# Altium schematic symbol library Master JULY2019.SchLib: 264 symbols (part 1 of 4)
Pins are listed as number, name and electrical type; pins without a type are passive.

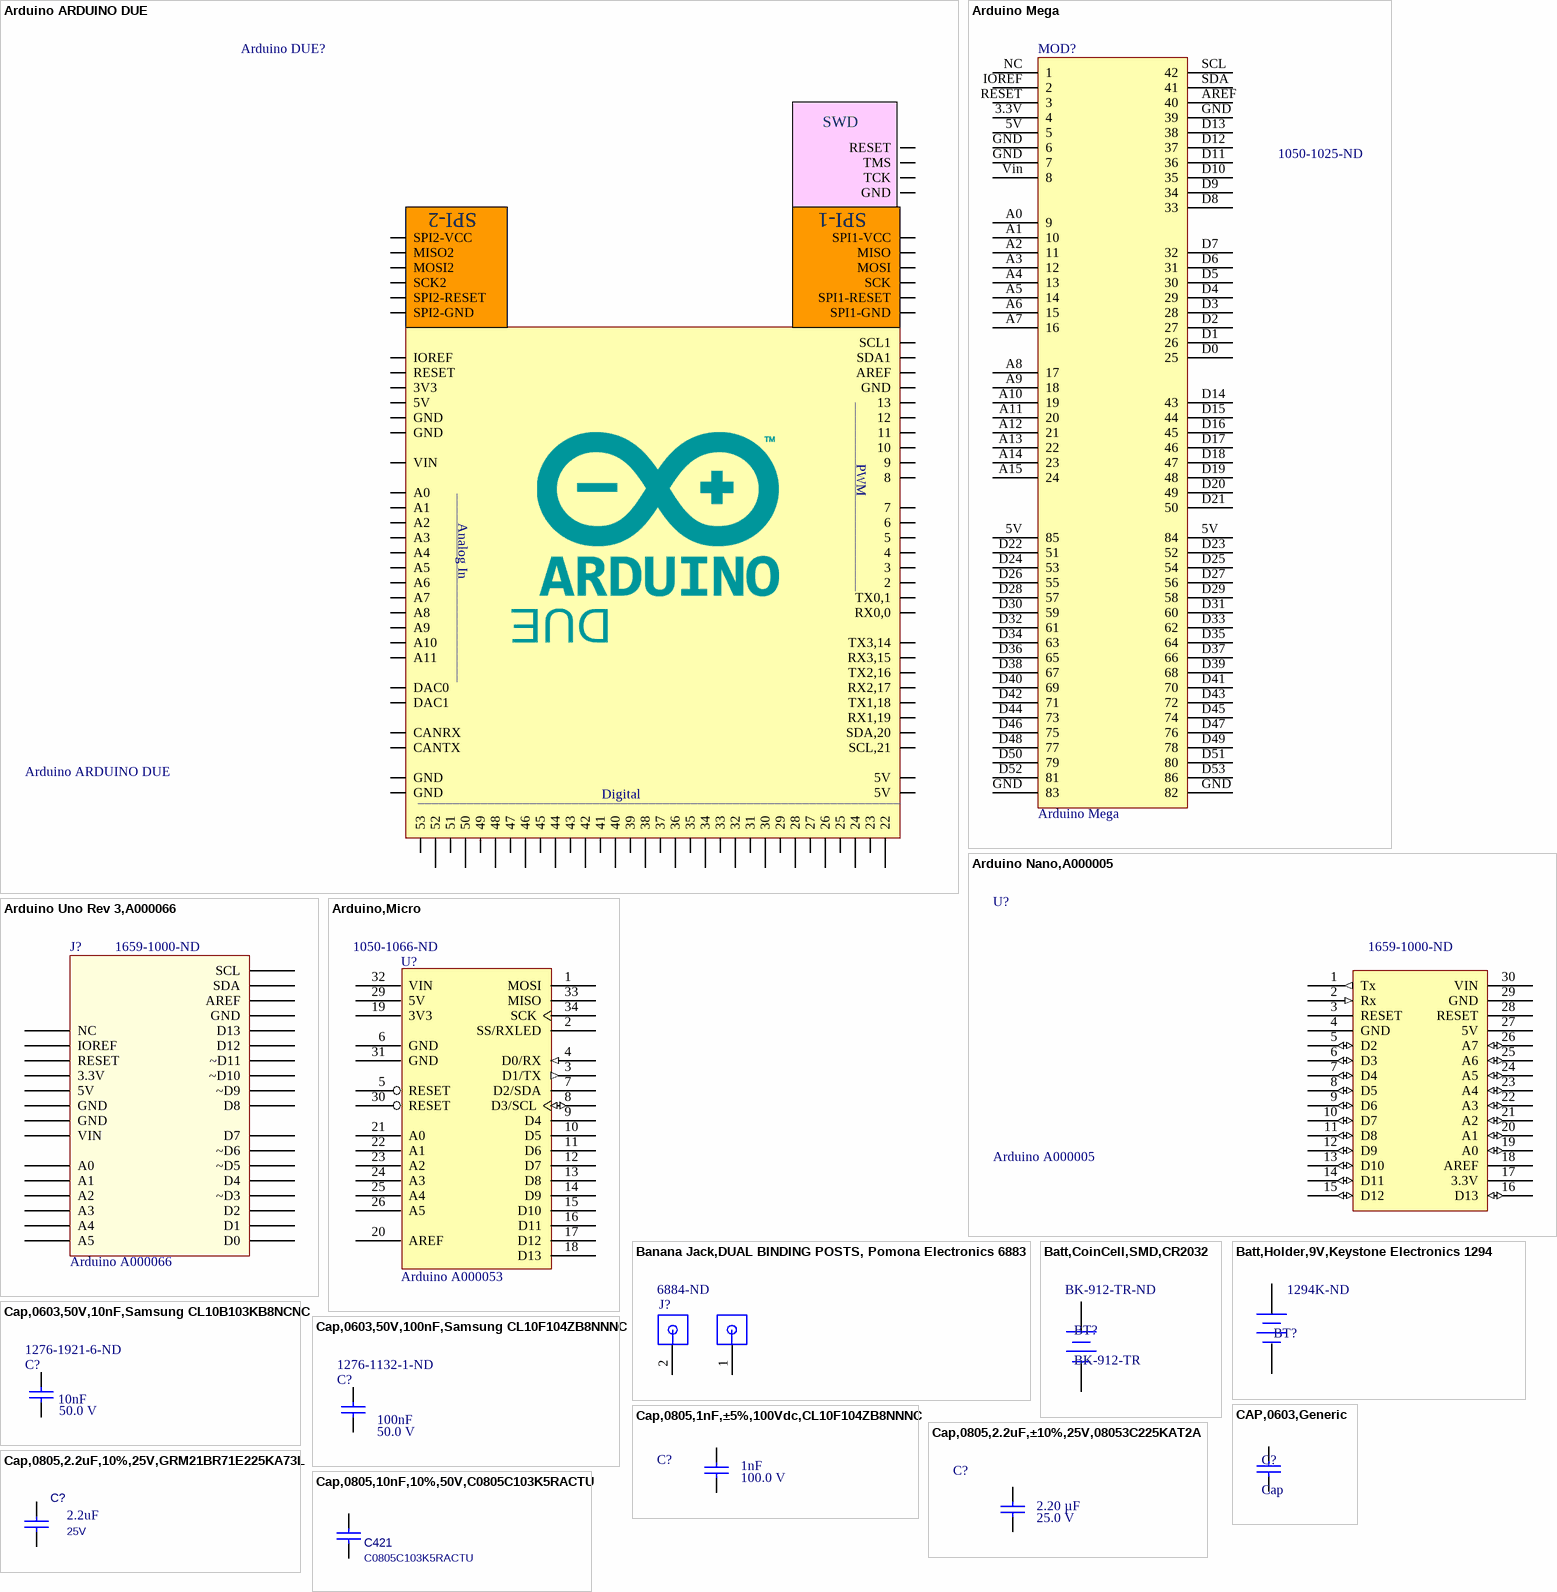
[diagram p0: symbols Arduino ARDUINO DUE to Cap,0805,10nF,10%,50V,C0805C103K5RACTU]

## Arduino ARDUINO DUE
designator Arduino DUE?
Dev.kit: Arduino Shield; Operating Voltage: 3.3V; DC Current for 5V Pin: 800mA; Input Voltage (recommended) (in VIN pin): 7-12V; Supplier 1: Newark; Supplier 2: TME; Supplier 3: Farnell; Supplier 4: Digi-Key; Supplier 5: RSComponents; Supplier 6: Digi-Key; Supplier Part Number 6: 1050-1049-ND; Supplier Part Number 5: 7697412
footprint Arduino_DUE (This footpring is intended to be used as a shield for Arduino DUE since Arduino DUE is an development board)
pins: 0 RX0,0, 1 TX0,1, 2, 3, 3V3, 4, 5, 5V, 5V1 5V, 5V2 5V, 5V-1 SPI1-VCC, 5V-2 SPI2-VCC, 6, 7, 8, 9, 10, 11, 12, 13, 14 TX3,14, 15 RX3,15, 16 TX2,16, 17 RX2,17, 18 TX1,18, 19 RX1,19, 20 SDA,20, 21 SCL,21, 22, 23, 24, 25, 26, 27, 28, 29, 30, 31, 32, 33, 34, 35, 36, 37, 38, 39, 40, 41, 42, 43, 44, 45, 46, 47, 48, 49, 50, 51, 52, 53, 99, A0, A1, A2, A3, A4, A5, A6, A7, A8, A9, A10, A11, AREF, CANRX, CANTX, DAC0, DAC1, GND, GND1 GND, GND2 GND, GND3 GND, GND4 GND, IOREF, MISO, MISO2, MOSI, MOSI2, RESET, SCK, SCK2, SCL1, SDA1, SPI1-GND, SPI1-RESET, SPI2-GND, SPI2-RESET, SWD-GND GND, SWD-RESET RESET, SWD-TCK TCK, SWD-TMS TMS, VIN
text: SWD; SPI-2; SPI-1; ___________________________; PWM; Analog In; DUE; Digital; _____________________________________________________________________

## Arduino Mega
designator MOD?  Supplier Part Number 1: 1050-1025-ND
ATMEGA2560, ARDUINO MEGA2560 REV3, BOARD; Silicon Manufacturer: Atmel; Core Archi; Octopart URL: https://octopart.com/a000067-arduino-21605293; Supplier 1: Digi-Key
footprint Arduino Mega 2560
pins: 3.3V 4, 5V 5, 5V 84, 5V 85, A0 9, A1 10, A2 11, A3 12, A4 13, A5 14, A6 15, A7 16, A8 17, A9 18, A10 19, A11 20, A12 21, A13 22, A14 23, A15 24, AREF 40, D0 25, D1 26, D2 27, D3 28, D4 29, D5 30, D6 31, D7 32, D8 33, D9 34, D10 35, D11 36, D12 37, D13 38, D14 43, D15 44, D16 45, D17 46, D18 47, D19 48, D20 49, D21 50, D22 51, D23 52, D24 53, D25 54, D26 55, D27 56, D28 57, D29 58, D30 59, D31 60, D32 61, D33 62, D34 63, D35 64, D36 65, D37 66, D38 67, D39 68, D40 69, D41 70, D42 71, D43 72, D44 73, D45 74, D46 75, D47 76, D48 77, D49 78, D50 79, D51 80, D52 81, D53 86, GND 6, GND 7, GND 39, GND 82, GND 83, IOREF 2, NC 1, RESET 3, SCL 42, SDA 41, Vin 8

## Arduino Nano,A000005
designator U?, comment Arduino A000005  Supplier Part Number 1: 1659-1000-ND
Nano 3.0 Atmel Atmega 328 MCU board; Supplier 1: Digi-Key
footprint Arduino Nano With Headers
pins: 1 Tx (out), 2 Rx (in), 3 RESET, 4 GND (power), 5 D2 (io), 6 D3 (io), 7 D4 (io), 8 D5 (io), 9 D6 (io), 10 D7 (io), 11 D8 (io), 12 D9 (io), 13 D10 (io), 14 D11 (io), 15 D12 (io), 16 D13 (io), 17 3.3V (power), 18 AREF, 19 A0 (io), 20 A1 (io), 21 A2 (io), 22 A3 (io), 23 A4 (io), 24 A5 (io), 25 A6 (io), 26 A7 (io), 27 5V (power), 28 RESET, 29 GND (power), 30 VIN (power)

## Arduino Uno Rev 3,A000066
designator J?, comment Arduino A000066  Supplier Part Number 1: 1659-1000-ND
Microcontroller board, Uno [Arduino] A000066 Microcontroller board, Uno 7640152110092; Core Architecture: AVR; Number of Bits: 8; OctopartID: aa24626d5c2275e3; RoHS: Compliant; Octopart URL: http://octopart.com/a000066-arduino-21222240; REACH SVHC Compliance: No SVHC; Manufacturer Part Number: A000066; Supplier 1: Digi-Key
footprint Arduino Uno (TE-5-534237-8)
pins: 3.3V, 5V, A0, A1, A2, A3, A4, A5, AREF, D0, D1, D2, D3 ~D3, D4, D5 ~D5, D6 ~D6, D7, D8, D9 ~D9, D10 ~D10, D11 ~D11, D12, D13, GND1 GND, GND2 GND, GND3 GND, IOREF, NC, RESET, SCL, SDA, VIN

## Arduino,Micro
designator U?, comment Arduino A000053  Supplier Part Number 1: 1050-1066-ND
Arduino Micro based on ATMega32u4; Number of Bits: 8; Arduino: Pro Micro (Mega32U4); Octopart URL: http://octopart.com/a000053-arduino-26601537; Manufacturer Part Number: A000053; Supplier 1: Digi-Key
footprint Arduino, Micro (Mill-Max 801 series sockets)
pins: 1 MOSI, 2 SS/RXLED, 3 D1/TX (out), 4 D0/RX (in), 5 RESET, 6 GND, 7 D2/SDA, 8 D3/SCL (io), 9 D4, 10 D5, 11 D6, 12 D7, 13 D8, 14 D9, 15 D10, 16 D11, 17 D12, 18 D13, 19 3V3 (power), 20 AREF, 21 A0, 22 A1, 23 A2, 24 A3, 25 A4, 26 A5, 29 5V (power), 30 RESET, 31 GND, 32 VIN (power), 33 MISO, 34 SCK

## Banana Jack,DUAL BINDING POSTS, Pomona Electronics 6883
designator J?, comment Supplier Part Number 1: 6884-ND  (hidden comment: Pomona Electronics 6883)
DUAL BINDING POSTS; Wire Gauge: 12.0 AWG; Lead-Free Status: Lead Free; Current Rating: 30.0 A; Octopart Url: https://octopart.com/6883-pomona+electronics-2074; Mounting Style: Panel; OctopartID: 47678e6d6a1b98a0; RoHS: Compliant; Color: Black; Contact Plating: Nickel; Contact Material: Brass; REACH SVHC Compliance: No SVHC; Insulation Material: Nylon; Supplier 1: Digi-Key
footprint Banana Jack 3/4" spacing 2 (Banana Jack 3/4" spacing)
footprint Banana Jack 3/4" spacing
pins: 1 +, 2 -

## Batt,CoinCell,SMD,CR2032
designator BT?, comment BK-912-TR  Supplier Part Number 1: BK-912-TR-ND
HOLDER COIN CELL 20MM SMD; Style: Retainer; Battery Cell Size: Coin, 20.0mm; Number of Cells: 1; Battery Series: 2032; mfg P/N: BK-912-TR; Mounting Type: PCB, Surface Mount; Supplier 1: Digi-Key
footprint Batt,CoinCell,CR2032,SMD (CR2032 CoinCell Battery Holder)
footprint Batt,CoinCell,CR2032,PC (CR2032 Coincell Battery Holder, Through Hole)
pins: 1 +, 2 -

## Batt,Holder,9V,Keystone Electronics 1294
designator BT?, comment Supplier Part Number 1: 1294K-ND  (hidden comment: Keystone Electronics 1294)
HOLDER BATT 9V UNIV PLASTIC PC; Lead-Free Status: Lead Free; Number of Contacts: 2; Octopart Url: https://octopart.com/1294-keystone-3743; Material: Plastic; REACH SVHC Compliance: No SVHC; Contact Plating: Nickel; RoHS: Compliant; Packaging: Bulk; Contact Material: Steel; Supplier 1: Digi-Key
footprint Batt,Holder,9V
pins: 1 +, 2 -

## Cap,0603,50V,10nF,Samsung CL10B103KB8NCNC
designator C?, comment Voltage Rating (DC): 50.0 V  Capacitance: 10nF  Supplier Part Number 1: 1276-1921-6-ND  (hidden comment: CL10B103KB8NCNC)
10000pF ±10% 50V Ceramic Capacitor X7R 0603 (1608 Metric); Dielectric Characteristic: Y5V; Lead-Free Status: Lead Free; Capacitance Tolerance: +80/-20%; RoHS: Compliant; Case/Package: 0603; Mounting Style: Surface Mount; mfg P/N: CL10B103KB8NCNC; Supplier 1: Digi-Key
footprint Cap, 0603 (CAPC1608X90X35LL15T15)
pins: 1, 2

## Cap,0603,50V,100nF,Samsung CL10F104ZB8NNNC
designator C?, comment Voltage Rating (DC): 50.0 V  Capacitance: 100nF  Supplier Part Number 1: 1276-1132-1-ND  (hidden comment: CL10F104ZB8NNNC)
Cap Ceramic 0.1uF 50V Y5V -20% to 80% SMD 0603 85C Paper T/R; Lead-Free Status: Lead Free; Capacitance Tolerance: +80/-20%; OctopartID: 6bf5a21323d9b432; Dielectric Characteristic: Y5V; RoHS: Compliant; Case/Package: 0603; Mounting Style: Surface Mount; Octopart Url: https://octopart.com/cl10f104zb8nnnc-samsung-15494474; mfg P/N: CL10F104ZB8NNNC; Supplier 1: Digi-Key; Supplier 2: LCSC; Supplier Part Number 2: C1688
footprint Cap, 0603 (CAPC1608X90X35LL15T15)
pins: 1, 2

## CAP,0603,Generic
designator C?, comment Cap
footprint Cap, 0603 (CAPC1608X90X35LL15T15)
pins: 1, 2

## Cap,0805,1nF,±5%,100Vdc,CL10F104ZB8NNNC
designator C?, comment Voltage Rating (DC): 100.0 V  Capacitance: 1nF  (hidden comment: C0805X102J1GACAUTO)
CAPACITOR, 1NF, 100V, NP0, 0805; Capacitance Tolerance: ±5%; Dielectric Characteristic: C0G/NP0; Dielectric Material: Ceramic; Lead-Free Status: Lead Free; Case/Package: 0805; Mounting Style: Surface Mount; Octopart Url: https://octopart.com/c0805x102j1gacauto-kemet-23280135; Packaging: Cut Tape (CT); REACH SVHC Compliance: No SVHC; RoHS: Compliant; mfg P/N: C0805X102J1GACAUTO; Supplier 1: Digi-Key; Supplier Part Number 1: 399-19430-1-ND
footprint CAP, 0805, HD (CAP,0805, high density)
footprint Cap,0805
pins: 1, 2
1 alternate drawing of the same symbol

## Cap,0805,2.2uF,10%,25V,GRM21BR71E225KA73L
designator C?, comment Voltage: 25V  Capacitance: 2.2uF  (hidden comment: GRM21BR71E225KA73L)  (net tie)
Cap,SMD,MLCC,2.2uF 25V X7R 10%,0805; Manufacturer: Murata; Manufacturer P/N: GRM21BR71E225KA73L (t&r, 3Kpcs); P/N: 211-121-19; iPS: 951-22501-R1; Not Stuffed: N/S; Temperature Category: -55~125 degC.; Fast Supplier: Digi-Key; Fast Supplier P/N: 490-3331-1-ND; Package: 0805; Type: X7R; mfg P/N: GRM21BR71E225KA73L; Supplier 1: Digi-Key; Supplier Part Number 1: 490-3331-1-ND
footprint res, 0805, HD (Resistor, 0805, High Density foot print)
pins: 1, 2

## Cap,0805,2.2uF,±10%,25V,08053C225KAT2A
designator C?, comment Voltage Rating (DC): 25.0 V  Capacitance: 2.20 µF  (hidden comment: AVX 08053C225KAT2A)
0805 2.2 uF 25 V ±10 % Tolerance X7R SMT Multilayer Ceramic Capacitor; Lead-Free Status: Lead Free; Case/Package (SI): 2012; Capacitance Tolerance: ±10%; REACH SVHC Compliance: No SVHC; Manufacturer Part Number: 08053C225KAT2A; Octopart URL: http://octopart.com/08053c225kat2a-avx-46506595; Case/Package: 0805; Mounting Style: Surface Mount; Dielectric Characteristic: X7R; RoHS: Compliant; Packaging: Cut Tape (CT), Tape & Reel (TR); Number of Pins: 2; Supplier 1: Digi-Key; Supplier Part Number 1: 478-5719-1-ND; Supplier 2: LCSC; Supplier Part Number 2: C167401
footprint CAP, 0805, HD (CAP,0805, high density)
footprint Cap,0805
pins: 1, 2

## Cap,0805,10nF,10%,50V,C0805C103K5RACTU
designator C421, comment C0805C103K5RACTU
Cap,SMD,10nF 50V X7R 10%,0805; Manufacturer: Kemet; P/N: 211-279-19; Not Stuffed: N/S; SMPC PN: 4300051; Fast Supplier: Digi-Key; mfg P/N: C0805C103K5RACTU; Fast Supplier P/N: 399-1158-1-ND; Supplier 1: Digi-Key; Supplier Part Number 1: 399-1158-1-ND
footprint Cap,0805
footprint CAP, 0805, HD (CAP,0805, high density)
pins: 1, 2

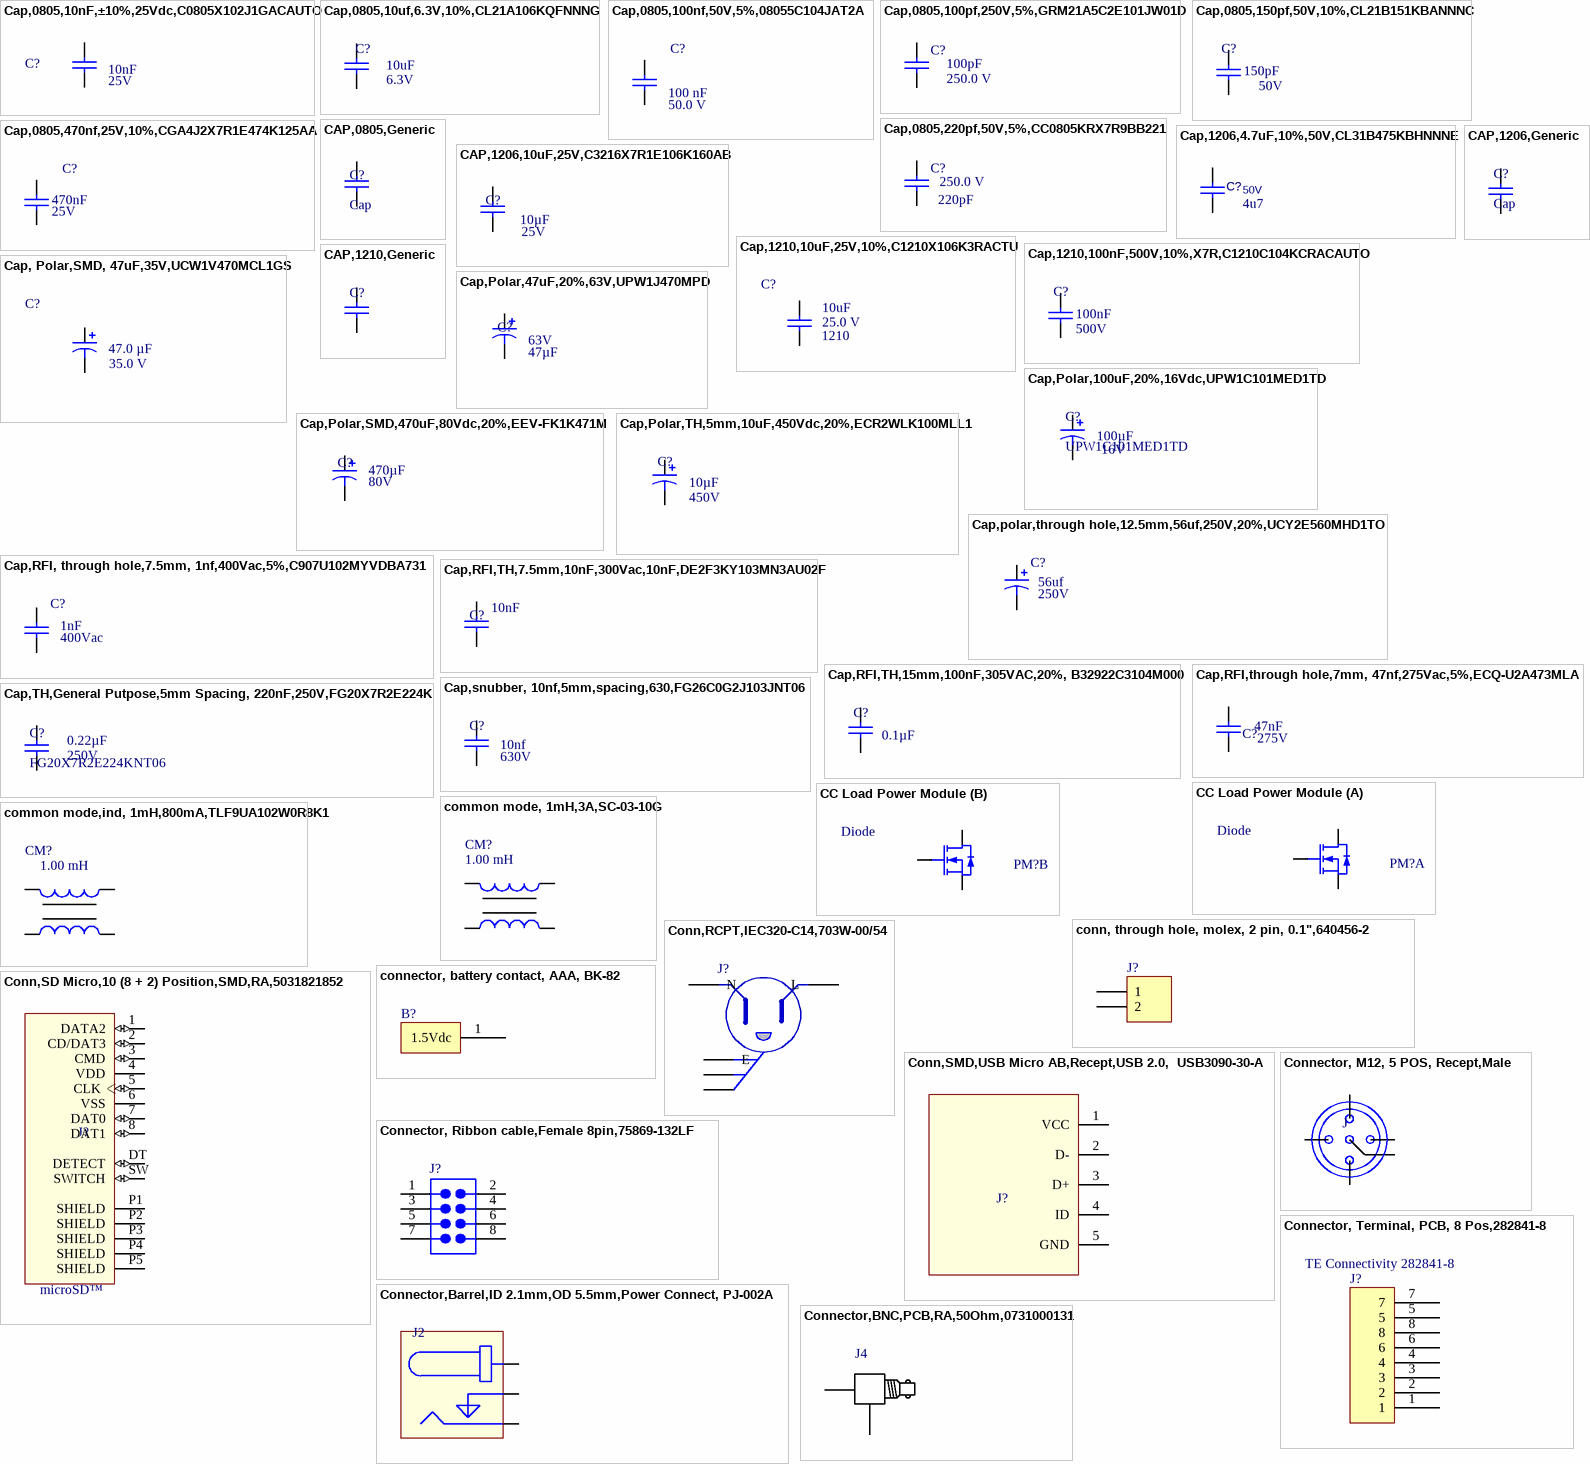
[diagram p1: symbols Cap,0805,10nF,±10%,25Vdc,C0805X102J1GACAUTO to Connector,BNC,PCB,RA,50Ohm,0731000131]

## Cap,0805,10nF,±10%,25Vdc,C0805X102J1GACAUTO
designator C?, comment Voltage Rating (DC): 25V  Capacitance: 10nF  (hidden comment: C0805X102J1GACAUTO)
CAP CER 10000PF 25V X7R 0805; Manufacturer: Samsung Electro-Mechanics; Capacitance Tolerance: ±10%; Dielectric Material: Ceramic; Lead-Free Status: Lead Free; Case/Package: 0805; Mounting Style: Surface Mount; REACH SVHC Compliance: No SVHC; RoHS: Compliant; mfg P/N: C0805X102J1GACAUTO; Applications: General Purpose; Operating Temperature: -55°C ~ 125°C; Temperature Coefficient: X7R; Series: CL; Supplier 1: Digi-Key; Supplier Part Number 1: 399-19430-1-ND
footprint Cap,0805
footprint CAP, 0805, HD (CAP,0805, high density)
pins: 1, 2
1 alternate drawing of the same symbol

## Cap,0805,10uf,6.3V,10%,CL21A106KQFNNNG
designator C?, comment Voltage - Rated: 6.3V  Capacitance: 10uF  (hidden comment: CL21A106KQFNNNG)
CL21 Series 10 uF 6.3V ±10 % Tolerance X5R SMT Multilayer Ceramic Capacitor; Lead-Free Status: Lead Free; Tolerance: ±10%; Other Names: 1276-6457-2; RoHS: Compliant; mfg P/N: CL21A106KQFNNNG; Mounting Style: Surface Mount; Operating Temperature: -55°C ~ 85°C; Applications: General Purpose; Package / Case: 0805 (2012 Metric); Supplier 1: Digi-Key; Supplier Part Number 1: 1276-6457-1-ND
footprint Cap,0805
footprint CAP, 0805, HD (CAP,0805, high density)
pins: 1, 2

## Cap,0805,100nf,50V,5%,08055C104JAT2A
designator C?, comment Voltage Rating (DC): 50.0 V  Capacitance: 100 nF  (hidden comment: 08055C104JAT2A)
Capacitor; Ceramic; Cap 0.1 uF; Tol 5%; Vol-Rtg 50 VDC; SMT; 0805; X7R; Tape & Reel; Lead-Free Status: Lead Free; Case/Package (SI): 2012; Insulation Resistance: 100 GΩ; Detailed Description: 0.1µF ±5% 50V Ceramic Capacitor X7R 0805 (2012 Metric); Mounting Style: Surface Mount; Packaging: Tape & Reel (TR), Cut Tape (CT); RoHS: Compliant; Size-Width: 1.24 mm; Case/Package: 0805; Number of Pins: 2; digikey url: http://www.digikey.ca/product-detail/en/avx-corporation/08055C104JAT2A/478-3352-1-ND/930144; REACH SVHC Compliance: No SVHC; Dielectric Characteristic: X7R; Capacitance Tolerance: ±5%; Size-Length: 2.01 mm; Size-Height: 710 µm; Size-Thickness: 940 µm; Manufacturer Part Number: 08055C104JAT2A; Octopart URL: http://octopart.com/08055c104jat2a-avx-55388010; Operating Temperature: -55°C ~ 125°C; Supplier 1: Digi-Key; Supplier Part Number 1: 478-3352-1-ND
footprint Cap,0805
footprint CAP, 0805, HD (CAP,0805, high density)
pins: 1, 2

## Cap,0805,100pf,250V,5%,GRM21A5C2E101JW01D
designator C?, comment Voltage Rating (DC): 250.0 V  Capacitance: 100pF  (hidden comment: GRM21A5C2E101JW01D)
CAP CER 100PF 250V 5% NP0 0805; Dielectric Characteristic: C0G/NP0; Lead-Free Status: Lead Free; Capacitance Tolerance: ±5%; Case/Package: 0805; RoHS: Compliant; Size-Length: 0.002 m; Size-Thickness: 0.001 m; Size-Width: 0.00125 m; mfg P/N: GRM21A5C2E101JW01D; Supplier 1: Digi-Key; Supplier Part Number 1: 490-5542-1-ND; Supplier 2: LCSC; Supplier Part Number 2: C162304
footprint CAP, 0805, HD (CAP,0805, high density)
footprint Cap,0805
pins: 1, 2
1 alternate drawing of the same symbol

## Cap,0805,150pf,50V,10%,CL21B151KBANNNC
designator C?, comment Capacitance: 150pF  Voltage - Rated: 50V  (hidden comment: CL21B151KBANNNC)
CAP CER 150PF 50V X7R 0805; Manufacturer: Samsung Electro-Mechanics; Tolerance: ±10%; mfg P/N: CL21B151KBANNNC; Part Status: Active; Temperature Coefficient: X7R; Operating Temperature: -55°C ~ 125°C; Applications: General Purpose; Package / Case: 0805 (2012 Metric); Thickness (Max): 0.030" (0.75mm); Supplier 1: Digi-Key; Supplier Part Number 1: 1276-2457-1-ND
footprint CAP, 0805, HD (CAP,0805, high density)
pins: 1, 2

## Cap,0805,220pf,50V,5%,CC0805KRX7R9BB221
designator C?, comment Voltage Rating (DC): 250.0 V  Capacitance: 220pF  (hidden comment: CC0805KRX7R9BB221)
220pF ±10% 50V Ceramic Capacitor X7R 0805 (2012 Metric); Manufacturer: Yageo; Lead-Free Status: Lead Free; Capacitance Tolerance: ±10%; Case/Package: 0805; RoHS: Compliant; Size-Length: 0.002 m; Size-Thickness: 0.001 m; Size-Width: 0.00125 m; Voltage - Rated: 50V; Temperature Coefficient: X7R; Operating Temperature: -55°C ~ 125°C; Features: High Voltage; Applications: General Purpose; Mounting Type: Surface Mount, MLCC; Package / Case: 0805 (2012 Metric); mfg P/N: CC0805KRX7R9BB221; Supplier 1: Digi-Key; Supplier Part Number 1: 311-1123-6-ND
footprint CAP, 0805, HD (CAP,0805, high density)
footprint Cap,0805
pins: 1, 2
1 alternate drawing of the same symbol

## Cap,0805,470nf,25V,10%,CGA4J2X7R1E474K125AA
designator C?, comment Voltage Rating (DC): 25V  Capacitance: 470nF  (hidden comment: CGA4J2X7R1E474K125AA)
0.47µF ±10% 25V Ceramic Capacitor X7R 0805 (2012 Metric); Manufacturer: TDK Corporation; Lead-Free Status: Lead Free; Case/Package (SI): 2012; Mounting Style: Surface Mount; Packaging: Tape & Reel (TR), Cut Tape (CT); RoHS: Compliant; Size-Width: 1.24 mm; Case/Package: 0805; Number of Pins: 2; REACH SVHC Compliance: No SVHC; Dielectric Characteristic: X7R; Capacitance Tolerance: ±10%; Size-Length: 2.01 mm; Size-Height: 710 µm; Size-Thickness: 940 µm; mfg P/N: CGA4J2X7R1E474K125AA; Ratings: AEC-Q200; Supplier 1: Digi-Key; Supplier Part Number 1: 445-5685-1-ND
footprint Cap,0805
pins: 1, 2

## CAP,0805,Generic
designator C?, comment Cap
footprint CAP, 0805, HD (CAP,0805, high density)
footprint Cap,0805
pins: 1, 2

## Cap,1206,4.7uF,10%,50V,CL31B475KBHNNNE
designator C?, comment Capacitance: 4u7  Voltage: 50V  (hidden comment: CL31B475KBHNNNE)
Cap,SMD,MLCC,4u7,50V,X7R,10%,1206; Manufacturer: Samsung; Manufacturer P/N: CL31B475KBHNNNE; Tolerance: 10%; Package: 1206; Supplier 1: LCSC; Supplier Part Number 1: C51205; Supplier 2: Digi-Key; Supplier Part Number 2: 1276-2789-1-ND
footprint Res,1206 (CAPC3216X127X50ML20T25)
pins: 1, 2

## CAP,1206,10uF,25V,C3216X7R1E106K160AB
designator C?, comment Capacitance: 10µF  Voltage - Rated: 25V  (hidden comment: C3216X7R1E106K160AB)
10µF ±10% 25V Ceramic Capacitor X7R 1206 (3216 Metric); Manufacturer: TDK Corporation; Features Low: ESL; mfg P/N: C3216X7R1E106K160AB; Tolerance: ±10%; Temperature Coefficient: X7R; Operating Temperature: -55°C ~ 125°C; Applications: General Purpose; Mounting Type: Surface Mount, MLCC; Package / Case: 1206 (3216 Metric); Size / Dimension: 0.126" L x 0.063" W (3.20mm x 1.60mm); Thickness (Max): 0.075" (1.90mm); Supplier 1: Digi-Key; Supplier Part Number 1: 445-7705-1-ND
footprint Cap, 1206
pins: 1, 2

## CAP,1206,Generic
designator C?, comment Cap
footprint Cap, 1206
pins: 1, 2

## Cap,1210,10uF,25V,10%,C1210X106K3RACTU
designator C?, comment Capacitance: 10uF  Case/Package: 1210  Voltage Rating (DC): 25.0 V  (hidden comment: C1210X106K3RACTU)
Cap Ceramic 10uF 25V X7R 10% SMD 1210 FlexiTerm 125C Plastic T/R; Lead-Free Status: R; Capacitance Tolerance: ±10%; Dielectric Characteristic: X7R; Dielectric Material: Ceramic; Mounting Style: Surface Mount; Number of Pins: 2; Packaging: Cut Tape (CT); REACH SVHC Compliance: No SVHC; RoHS: Compliant; Supplier 1: Digi-Key; Supplier Part Number 1: 399-8241-1-ND
footprint Cap,1210
pins: 1, 2
1 alternate drawing of the same symbol

## Cap,1210,100nF,500V,10%,X7R,C1210C104KCRACAUTO
designator C?, comment Capacitance: 100nF  Voltage - Rated: 500V  (hidden comment: C1210C104KCRACAUTO)
CAP CER 1210 0.1UF 500V X7R 10%; Manufacturer: KEMET; Detailed Description: 0.1µF ±10% 500V Ceramic Capacitor X7R 1210 (3225 Metric); Categories: Capacitors   Ceramic Capacitors; mfg P/N: C1210C104KCRACAUTO; Series: SMD Auto X7R HV; Part Status: Active; Tolerance: ±10%; Temperature Coefficient: X7R; Operating Temperature: -55°C ~ 125°C; Features: Low ESL, High Voltage; Ratings: AEC-Q200; Applications: Automotive, Bypass, Decoupling; Mounting Type: Surface Mount, MLCC; Package / Case: 1210 (3225 Metric); Size / Dimension: 0.126" L x 0.098" W (3.20mm x 2.50mm); Thickness (Max): 0.091" (2.30mm); Supplier 1: Digi-Key; Supplier Part Number 1: 399-16744-1-ND
footprint Cap,1210
pins: 1, 2

## CAP,1210,Generic
designator C?, comment Cap  (value not drawn)
footprint Cap,1210
pins: 1, 2

## Cap, Polar,SMD, 47uF,35V,UCW1V470MCL1GS
designator C?, comment Voltage Rating (DC): 35.0 V  Capacitance: 47.0 µF  (hidden comment: Nichicon UCW1V470MCL1GS)
47uF 35 V dc Aluminium Electrolytic Capacitor, CW Series 7000h 6.3(Dia.)x8.7mm; Capacitance Tolerance: ±20%; Octopart URL: http://octopart.com/ucw1v470mcl1gs-nichicon-19717421; Manufacturer Part Number: UCW1V470MCL1GS; Size-Height: 8.70 mm; RoHS: Compliant; Mounting Style: Surface Mount; Size-Diameter: 6.30 mm; OctopartID: d4591c7f2c120b9e; Supplier 1: Digi-Key; Supplier Part Number 1: 493-9433-1-ND
footprint Cap, SMD, polerized, 5mm spacing (CAP POLYMER 180UF 20% 16V SMD)
pins: 1, 2

## Cap,Polar,47uF,20%,63V,UPW1J470MPD
designator C?, comment Capacitance: 47µF  Voltage - Rated: 63V  (hidden comment: UPW1J470MPD1TD)
47µF 63V Aluminum Electrolytic Capacitors Radial, Can 3000 Hrs @ 105°C; Tolerance: ±20%; Polarization: Polar; Ripple Current @ Low Frequency: 121.5mA @ 120Hz; Ripple Current @ High Frequency: 405mA @ 100kHz; Impedance: 342 mOhms; mfg P/N: UPW1J470MPD1TD; Lifetime @ Temp.: 3000 Hrs @ 105°C; Operating Temperature: -55°C ~ 105°C; Applications: General Purpose; Lead Spacing: 0.138" (3.50mm); Size / Dimension: 0.315" Dia (8.00mm); Height - Seated: (Max) 0.512" (13.00mm); Mounting Type: Through Hole; Package / Case: Radial, Can; Supplier 1: Digi-Key; Supplier Part Number 1: 493-11607-1-ND
footprint Cap,Polar,3.5mm lead,8mm Dia
pins: 1, 2

## Cap,Polar,100uF,20%,16Vdc,UPW1C101MED1TD
designator C?, comment UPW1C101MED1TD  Capacitance: 100µF  Voltage - Rated: 16V
100µF 16V Aluminum Electrolytic Capacitors Radial, Can 2000 Hrs @ 105°C; Tolerance: ±20%; Polarization: Polar; Ripple Current @ Low Frequency: 188.5mA @ 120Hz; Ripple Current @ High Frequency: 290mA @ 100kHz; Impedance: 250 mOhms; mfg P/N: UPW1C101MED1TD; Lifetime @ Temp.: 2000 Hrs @ 105°C; Operating Temperature: -55°C ~ 105°C; Applications: General Purpose; Lead Spacing: 0.098" (2.50mm); Size / Dimension: 0.248" Dia (6.30mm); Height - Seated (Max): 0.492" (12.50mm); Mounting Type: Through Hole; Package / Case: Radial, Can; Supplier 1: Digi-Key; Supplier Part Number 1: 493-11490-1-ND
footprint Cap,Polar,2.5mm lead,6.3mm Dia
pins: 1, 2

## Cap,Polar,SMD,470uF,80Vdc,20%,EEV-FK1K471M
designator C?, comment Capacitance: 470µF  Voltage - Rated: 80V  (hidden comment: EEV-FK1K471M)
470µF 80V Aluminum Electrolytic Capacitors Radial, Can - SMD 5000 Hrs @ 105°C; Tolerance: ±20%; Polarization: Polar; Ripple Current @ Low Frequency: 687.8mA @ 120Hz; Ripple Current @ High Frequency: 917mA @ 100kHz; Impedance: 153 mOhms; Surface Mount Land Size: 0.748" L x 0.748" W (19.00mm x 19.00mm); mfg P/N: EEV-FK1K471M; Lifetime @ Temp.: 5000 Hrs @ 105°C; Operating Temperature: -55°C ~ 105°C; Ratings: AEC-Q200; Applications: Automotive; Size / Dimension: 0.709" Dia (18.00mm); Height - Seated (Max): 0.669" (17.00mm); Mounting Type: Surface Mount; Package / Case: Radial, Can - SMD; Supplier 1: Digi-Key; Supplier Part Number 1: PCE3496CT-ND; Supplier 2: LCSC; Supplier Part Number 2: C178731
footprint Cap,Polar,EEV-FK1K471M
pins: 1, 2

## Cap,Polar,TH,5mm,10uF,450Vdc,20%,ECR2WLK100MLL1
designator C?, comment Capacitance: 10µF  Voltage - Rated: 450V  (hidden comment: ESH106M450AH4AA)
10µF 450V Aluminum Electrolytic Capacitors Radial, Can 2000 Hrs @ 105°C; Tolerance: ±20%; Polarization: Polar; Ripple Current @ Low Frequency: 85mA @ 120Hz; Ripple Current @ High Frequency: 136mA @ 100kHz; mfg P/N: ESH106M450AH4AA; Lifetime @ Temp.: 2000 Hrs @ 105°C; Operating Temperature: -25°C ~ 105°C; Applications: General Purpose; Lead Spacing: 0.197" (5.00mm); Size / Dimension: 0.394" Dia (10.00mm); Height - Seated (Max): 0.866" (22.00mm); Mounting Type: Through Hole; Package / Case: Radial, Can; Supplier 1: Digi-Key; Supplier Part Number 1: 399-15671-ND
footprint CAP,POLAR,5mm LS,10mmDIA,22mm Hei
footprint CAP,POLAR,RA,5mm LS,10mmDIA,22mm Hei
footprint CAP,POLAR,RA2,5mm LS,10mmDIA,22mm Hei (CAP,POLAR,RA,5mm LS,10mmDIA,22mm Hei)
pins: 1, 2

## Cap,polar,through hole,12.5mm,56uf,250V,20%,UCY2E560MHD1TO
designator C?, comment Capacitance: 56uf  Voltage rating: 250V  (hidden comment: UCY2E560MHD1TO)
Cap Alum 56uf 20% 250v Radial; Manufacturer: Nichicon; Detailed Description: 56µF 250V Aluminum Electrolytic Capacitors Radial, Can 12000 Hrs @ 105°C; Categories: Capacitors   Aluminum Electrolytic Capacitors; Lifetime @ Temp.: 12000 Hrs @ 105°C; Polarization: Polar; Ripple Current @ Low Frequency: 515mA @ 120Hz; Ripple Current @ High Frequency: 1.03A @ 100kHz; Manufacturer Part Number: UCY2E560MHD1TO; Supplier 1: Digi-Key; Supplier Part Number 1: 493-4820-1-ND; Series: UCY; Part Status: Active; Tolerance: ±20%; Voltage - Rated: 250V; Operating Temperature: -40°C ~ 105°C; Applications: General Purpose; Lead Spacing: 0.197" (5.00mm); Size / Dimension: 0.492" Dia (12.50mm); Height - Seated (Max): 0.846" (21.50mm); Mounting Type: Through Hole; Package / Case: Radial, Can
footprint Cap, Rad, 5mmLead,12.5mmDia,Pin 2+ (Pol Cap, Rad, though hole. spc 12.5mm, pad 1.2mm, hole 0.7mm)
pins: 1, 2

## Cap,RFI, through hole,7.5mm, 1nf,400Vac,5%,C907U102MYVDBA7317
designator C?, comment value 1nF  volt: 400Vac  (hidden comment: C907U102MYVDBA7317)
1000pF ±20% 400VAC Ceramic Capacitor Y5V (F) Radial, Disc; Ratings: X1, Y2; Mfg P/N: C907U102MYVDBA7317; Temperature Coefficient: Y5V; series: C900; Application: RFI; Voltage - Rated: 400VAC; Operating Temperature: -40°C ~ 125°C; Applications: Safety; Mounting Type: Through Hole; Package / Case: Radial, Disc; Size / Dimension: 0.276" Dia (7.00mm); Lead Spacing: 0.295" (7.50mm); Lead Style: Formed Leads - Kinked; Supplier 1: Digi-Key; Supplier Part Number 1: 399-9472-1-ND
footprint Cap,7.5mm,RFI (Spc 7.5mm, pad 1.6mm,hole 0.8mm, radial,Through hole)
pins: 1, 2

## Cap,RFI,TH,7.5mm,10nF,300Vac,10nF,DE2F3KY103MN3AU02F
designator C?, comment Capacitance: 10nF  (hidden comment: DE2F3KY103MN3AU02F)
10000pF ±20% 300VAC Ceramic Capacitor F Radial, Disc; Manufacturer: Murata Electronics North America; Ratings: X1, Y2; mfg P/N: DE2F3KY103MN3AU02F; Tolerance: ±20%; Voltage - Rated: 300VAC; Temperature Coefficient: F; Operating Temperature: -40°C ~ 125°C; Applications: Safety; Mounting Type: Through Hole; Package / Case: Radial, Disc; Size / Dimension: 0.551" Dia (14.00mm); Height - Seated (Max): 0.669" (17.00mm); Lead Spacing: 0.295" (7.50mm); Lead Style: Formed Leads; Supplier 1: Digi-Key; Supplier Part Number 1: 490-9565-1-ND
footprint Cap,7.5mm,RFI (Spc 7.5mm, pad 1.6mm,hole 0.8mm, radial,Through hole)
pins: 1, 2

## Cap,RFI,TH,15mm,100nF,305VAC,20%, B32922C3104M000
designator C?, comment Capacitance: 0.1µF  (hidden comment: B32922C3104M000)
0.1µF Film Capacitor 305V 630V Polypropylene (PP) Radial; Manufacturer: EPCOS (TDK); Tolerance: ±20%; Ratings: X2; mfg P/N: B32922C3104M000; Voltage Rating - AC: 305V; Voltage Rating - DC: 630V; Dielectric Material: Polypropylene (PP); Operating Temperature: O-40°C ~ 110°C; Mounting Type: Through Hole; Package / Case: Radial; Size / Dimension: 0.709" L x 0.197" W (18.00mm x 5.00mm); Height - Seated (Max): 0.413" (10.50mm); Termination: PC Pins; Lead Spacing: 0.591" (15.00mm); Applications: EMI, RFI Suppression; Supplier 1: Digi-Key; Supplier Part Number 1: 495-2319-ND
footprint CAP,RFI,15mm Lead Spaceing (0.709" L x 0.197" W (18.00mm x 5.00mm))
pins: 1, 2

## Cap,RFI,through hole,7mm, 47nf,275Vac,5%,ECQ-U2A473MLA
designator C?, comment Voltage Rating - AC: 275V  Capacitance: 47nF  (hidden comment: ECQ-U2A473MLA)
Capacitor; Polyester Metallized; Cap 0.047 uF; Tol 20%; Vol-Rtg 275 VAC; Radial; Bulk; Dielectric Material: Polyester, Metallized; Ratings: X2; Manufacturer Part Number: ECQ-U2A473MLA; Lifecycle Status: Not Listed by Manufacturer; RoHS: Compliant; Tolerance: ±20%; Operating Temperature: -40°C ~ 100°C; Mounting Type: Through Hole; Package / Case: Radial; Size / Dimension: 0.591" L x 0.236" W (15.00mm x 6.00mm); Height - Seated (Max): 0.532" (13.50mm); Termination: PC Pins; Lead Spacing: 0.492" (12.50mm); Applications: EMI, RFI Suppression; Supplier 1: Digi-Key; Supplier Part Number 1: ECQ-U2A473MLA-ND
footprint Cap, Non-pol,12.5mm (though hole, cap, radial, spc 12.55mm, pad1.2mm, hole 0.7)
pins: 1, 2

## Cap,snubber, 10nf,5mm,spacing,630,FG26C0G2J103JNT06
designator C?, comment Voltage - Rated: 630V  Capacitance: 10nf  (hidden comment: FG26C0G2J103JNT06)
10000pF ±5% 630V Ceramic Capacitor C0G, NP0 Radial; Tolerance: ±5%; Temperature Coefficient: C0G, NP0; Operating Temperature: -55°C ~ 125°C; Applications: General Purpose; Mounting Type: Through Hole; Package / Case: Radial; Size / Dimension 0: .217" L x 0.138" W (5.50mm x 3.50mm); Height - Seated (Max): 0.236" (6.00mm); Lead Spacing: 0.197" (5.00mm); Lead Style: Formed Leads - Kinked; mfg P/N: FG26C0G2J103JNT06; Supplier 1: Digi-Key; Supplier Part Number 1: 445-173406-1-ND
footprint Cap, 5mm Lead Spaceing, 4mm dai (Ceraminc Cap with 7.5mm lead spacing and 5mm dia)
pins: 1, 2

## Cap,TH,General Putpose,5mm Spacing, 220nF,250V,FG20X7R2E224KNT06
designator C?, comment FG20X7R2E224KNT06  Voltage - Rated: 250V  Capacitance: 0.22µF
0.22µF ±10% 250V Ceramic Capacitor X7R Radial; Manufacturer: TDK Corporation; mfg P/N: FG20X7R2E224KNT06; Tolerance: ±10%; Temperature Coefficient: X7R; Operating Temperature: -55°C ~ 125°C; Applications: General Purpose; Mounting Type: Through Hole; Package / Case: Radial; Size / Dimension: 0.217" L x 0.157" W (5.50mm x 4.00mm); Height - Seated (Max): 0.276" (7.00mm); Lead Spacing: 0.197" (5.00mm); Lead Style: Formed Leads - Kinked; Supplier 1: Digi-Key; Supplier Part Number 1: 445-173299-1-ND
footprint Cap, 5mm Lead Spaceing, 4mm dai (Ceraminc Cap with 7.5mm lead spacing and 5mm dia)
pins: 1, 2

## CC Load Power Module
designator PM?, comment Diode
Dual RA Mosfet TO-247 with CPU cooler; Mosfets: IXYS IXTH30N60L2; Cooling assembly: Hyper T2
footprint DUAL TO-247-RA WITH HEATSINK (FM, 3-Leads, Body 5.02x15.94mm, Pitch 5.44mm)
part A pins: 1 G, 2 D, 3 S
part B pins: 4 G, 5 D, 6 S

## common mode, 1mH,3A,SC-03-10G
designator CM?, comment Inductance: 1.00 mH  (hidden comment: KEMET SC-03-10G)
Common Mode Chokes Dual 1mH 100kHz 3A Thru-Hole; Lead-Free Status: Lead Free; Current Rating: 3.00 A; Octopart URL: https://octopart.com/sc-03-10g-kemet-30531765; Manufacturer Part Number: SC-03-10G; Mounting Style: Through Hole; Packaging: Bulk; REACH SVHC Compliance: No SVHC; RoHS: Compliant; OctopartID: 80c0481b45135f07; Supplier 1: Digi-Key; Supplier Part Number 1: 399-10642-ND
footprint Common mode,8mm,13mm (Common mode filter, 3A 100Khz)
pins: 1, 2, 3, 4

## common mode,ind, 1mH,800mA,TLF9UA102W0R8K1
designator CM?, comment Inductance: 1.00 mH  (hidden comment: TLF9UA102W0R8K1)
CMC 1MH 800MA 2LN TH; Manufacturer: Taiyo Yuden; Lead-Free Status: Lead Free; Detailed Description: 1mH @ 1kHz 2 Line Common Mode Choke Through Hole 800mA DCR 500mOhm; Categories: Filters   Common Mode Chokes; Filter Type: Power Line; Number of Lines: 2; Inductance @ Frequency: 1mH @ 1kHz; DC Resistance (DCR) (Max): 500mOhm; Voltage Rating - AC: 250V; mfg P/N: TLF9UA102W0R8K1; Mounting Style: Through Hole; RoHS: Compliant; Part Status: Active; Current Rating (Max): 800mA; Operating Temperature: -25°C ~ 105°C; Mounting Type: Through Hole; Size / Dimension: 0.669" L x 0.433" W (17.00mm x 11.00mm); Height (Max): 0.630" (16.00mm); Package / Case: Vertical, 4 PC Pin; Supplier 1: Digi-Key; Supplier Part Number 1: 587-2788-ND
footprint Common mode inductor,TLF9UA102W0R8K1 (1mH @ 1kHz 2 Line Common Mode Choke Through Hole 800mA DCR 500 mOhm)
pins: 1, 2, 3, 4

## conn, through hole, molex, 2 pin, 0.1",640456-2
designator J?  (value not drawn)
Header, Friction Lock; MTA-100; 2; 250 VAC; Polyester; Tin; Copper Alloy; Tin; Voltage Rating (AC): 250.0 V; Current Rating: 4.0 A; Pin Pitch: 0.00254 m; Shrouded: No; Number of Contacts: 2; Contact Plating: Tin; REACH SVHC Compliance: No SVHC; Packaging: Bag; Orientation: Vertical; Size-Length: 0.00508 m; Flammability Rating: UL 94 V-0; Size-Width: 0.005715 m; Number of Rows: 1; Supplier 1: Newark; Supplier 2: Farnell; Supplier 3: TME; Supplier 4: Allied; Supplier 5: Digi-Key; Supplier 6: Farnell; Supplier 7: Newark; Supplier 8: Allied; Supplier 9: Digi-Key; Supplier 10: Farnell; Supplier 11: Newark; Supplier 12: TME; Supplier 13: Digi-Key; Supplier Part Number 13: A1921-ND; Supplier 14: LCSC; Supplier Part Number 14: C86502
footprint Conn, Molex, 2pin,0.1" spacing
pins: 1, 2

## Conn,RCPT,IEC320-C14,703W-00/54
designator J?, comment Qualtek 703W-00/54  (value not drawn)
Inlet, Power; PCB Mount; 250 VAC; 12-15A; Nylon; Black; Connector Style: IEC 320-C14; Connector Type: Receptacle, Male Blades; Current - IEC: 10A; Voltage - IEC: 250VAC; Current - UL: 15A; Filter Type: Unfiltered - Commercial; Fuse: No; Number of Positions: 3; Panel Thickness: 0.120" (3.00mm); Approvals: CSA, UL, VDE; mfg P/N: 703W-00/54; Manufacturer: Qualtek; Part Status: Active; Voltage - UL: 250VAC; Mounting Type: Panel Mount, Flange; Through Hole, Right Angle; Termination: Solder; Panel Cutout Dimensions: Rectangular - 31.10mm x 23.30mm; Supplier 1: Digi-Key; Supplier Part Number 1: Q220-ND
footprint conn, IEC320,703W-00/54 (Power Entry Connector Receptacle, Male Blades IEC 320-C14 Panel Mount, Flange; Through Hole, Right Angle)
pins: 1 L, 2 E, 3 N, 4 E, 5 E

## Conn,SD Micro,10 (8 + 2) Position,SMD,RA,5031821852
designator J?, comment Card Type: microSD™  (hidden comment: 5031821852)
MICRO SD NORMAL ULTRALOWPRO8CKTE; Manufacturer: Molex; Detailed Description: 10 (8 + 2) Position Card Connector microSD™ Surface Mount, Right Angle Gold; Categories: Connectors, Interconnects   Memory Connectors - PC Card Sockets; Number of Positions: 10 (8 + 2); Connector Type: Connector and Ejector; Insertion, Removal Method: Push In, Push Out; mfg P/N: 5031821852; Series: 503182; Part Status: Active; Mounting Type: Surface Mount, Right Angle; Features: Switch; Height Above Board: 0.057" (1.45mm); Mounting Feature: Normal, Standard - Top; Contact Finish: Gold; Supplier 1: Digi-Key; Supplier Part Number 1: WM12834CT-ND
footprint Conn,SD micro,503182-1852
pins: 1 DATA2 (io), 2 CD/DAT3 (io), 3 CMD (io), 4 VDD (power), 5 CLK (io), 6 VSS (power), 7 DAT0 (io), 8 DAT1 (io), DT DETECT (io), P1 SHIELD, P2 SHIELD, P3 SHIELD, P4 SHIELD, P5 SHIELD, SW SWITCH (io)

## Conn,SMD,USB Micro AB,Recept,USB 2.0,  USB3090-30-A
designator J?, comment USB3090-30-A  (value not drawn)
MICRO A/B SKT,BOTTOM-SMT, R/A, 3; Manufacturer: GCT; Detailed Description: USB - micro AB USB 2.0 Receptacle Connector 5 Position Surface Mount, Right Angle; Through Hole; Connector Type: USB - micro AB; Number of Contacts: 5; Gender: Receptacle; Specifications: USB 2.0; Number of Ports: 1; Current Rating (Amps): 1A, 1.8A; Voltage - Rated: 30VAC; Mating Cycles: 10000; Shielding: Shielded; Material Flammability Rating: UL94 V-0; Categories: Connectors, Interconnects   USB, DVI, HDMI Connectors; mfg P/N: USB3090-30-A; Series: USB3090; Part Status: Active; Mounting Type: Surface Mount, Right Angle; Through Hole; Mounting Feature: Bottom Mount, Horizontal; Termination: Solder; Features: Solder Retention; Operating Temperature: -30°C ~ 85°C; Contact Finish: Gold; Shell/Shielding Material: Steel, Stainless (SUS); Insulation Color: Black; Supplier 1: Digi-Key; Supplier Part Number 1: 2073-USB3090-30-ATR-ND
footprint Conn,USB micro,AB, Receptacle,USB3090-30-A (USB - micro AB USB 2.0 Receptacle Connector 5 Position Surface Mount, Right Angle; Through Hole)
pins: 1 VCC, 2 D-, 3 D+, 4 ID, 5 GND, 6 Shield hidden to GND, 7 Shield hidden to GND, 8 Shield hidden to GND, 9 Shield hidden to GND

## connector, battery contact, AAA, BK-82
designator B?, comment Memory Protection Devices BK-82  (value not drawn)
Contact Battery Aaa Size; Manufacturer Part Number: BK-82; Supplier 1: Digi-Key; Supplier Part Number 1: BK-82-ND
footprint BK-82 (AAA Battery holder)
pins: 1 1.5Vdc

## Connector, M12, 5 POS, Recept,Male
designator J, comment M12A-05PMMP-SF8002  (value not drawn)
Connector Type: Receptacle, Male Pins; Number of Positions: 5; Ingress Protection: IP68/69K - Dust Tight, Water Resistant, Waterproof; Shielding: Shielded; Current Rating: 4A; Voltage Rating: 60VAC/DC; Insert Material: Polyamide (PA), Nylon, Glass Filled; mfg P/N: M12A-05PMMP-SF8002; Shell Size - Insert: M12-5; Mounting Type: Panel Mount, Through Hole; Mounting Feature: Bulkhead - Front Side Nut; Termination: Solder; Fastening Type: Threaded; Orientation: A; Shell Material: Zinc Alloy; Shell Finish: Nickel; Contact Finish - Mating: Gold; Color: Silver; Contact Material: Copper Alloy; Operating Temperature: -40°C ~ 105°C; Supplier 1: Digi-Key; Supplier Part Number 1: 1754-1017-ND
footprint Connector, M12,5 POS, bulk mount (5 Position Circular Connector Receptacle, Male Pins Solder Gold)
pins: 1, 2, 3, 4, 5

## Connector, Ribbon cable,Female 8pin,75869-132LF
designator J?, comment FCI 75869-132LF  (value not drawn)
Conn; Rect; Header; 8Cnts; ThruMount; Quickie; 2.54mmPin-Spng; Vert; DblRow; Gender: Male; Number of Contacts: 8; Lead-Free Status: Lead Free; Contact Material: Phosphor Bronze; RoHS: Compliant; Manufacturer Part Number: 75869-132LF; Contact Plating: Gold; Mounting Style: Through Hole; Supplier 1: Newark; Supplier 2: Digi-Key; Supplier 3: Farnell; Supplier 4: Digi-Key; Supplier Part Number 4: 609-3530-ND
footprint IDC-8_L (8pin ribbon cable connector)
pins: 1, 2, 3, 4, 5, 6, 7, 8

## Connector, Terminal, PCB, 8 Pos,282841-8
designator J?, comment TE Connectivity 282841-8
Buchanan; Conn; Term Blk; PCB; 8; 5.08 mm; 30-12 AWG; Green; 17.5 A; 300 V; Lead-Free Status: Lead Free; Number of Contacts: 8; Pin Pitch: 5.08 mm; ELV Compliant: Compliant; Size-Width: 9.00 mm; Lifecycle Status: Active; Number of Rows: 1; Mounting Style: Through Hole, Screw; RoHS: Compliant; Housing Material: Nylon 6/6; Size-Length: 40.6 mm; Housing Color: Green; Number of Positions: 8; Size-Height: 15.2 mm; Octopart URL: http://octopart.com/282841-8-te+connectivity-39539776; Contact Plating: Tin; Contact Material: Brass; Flammability Rating: UL 94 V-0; Manufacturer Part Number: 282841-8; Supplier 1: Digi-Key; Supplier Part Number 1: A98345-ND
footprint Conn, wire to pcb terminal,282841-8 (TERM BLOCK 8POS SIDE ENT 5.08MM)
pins: 1, 2, 3, 4, 5, 6, 7, 8

## Connector,Barrel,ID 2.1mm,OD 5.5mm,Power Connect, PJ-002A
designator J2, comment PJ-002A  (value not drawn)
Power Barrel Connector Jack 2.10mm ID (0.083"), 5.50mm OD (0.217") Through Hole, Right Angle; Manufacturer: CUI Inc.; Actual Diameter: 0.079" (2.00mm ID), 0.256" (6.50mm OD); Number of Positions/Contacts: 2 Conductors, 3 Contacts; Mating Length/Depth: 0.354" (9.00mm); Dielectric Material: Polybutylene Terephthalate (PBT); Internal Switch(s): Does Not Contain Switch; Shielding: Unshielded; Voltage - Rated: 24VDC; Current Rating (Amps): 2.5A; Material Flammability Rating: UL94 V-0; Body Color: Black; mfg P\N: PJ-002A; Industry Recognized Mating Diameter: 2.10mm ID (0.083"), 5.50mm OD (0.217"); Connector Type: Jack; Mounting Type: Through Hole, Right Angle; Termination: Solder Eyelet(s); Contact Material - Plating: Tin; Operating Temperature: -25°C ~ 85°C; Contact Material: Brass, Copper Alloy; Supplier 1: Digi-Key; Supplier Part Number 1: CP-002A-ND
footprint Connector,Barrel,2.1mm,5.5mm,DC power Jack
pins: 1, 2, 3

## Connector,BNC,PCB,RA,50Ohm,0731000131
designator J4, comment 0731000131  (value not drawn)
BNC CONNECTOR; Manufacturer: Molex; Detailed Description: BNC Connector Jack, Female Socket 50Ohm Panel Mount, Through Hole, Right Angle Solder; Connector Type: Jack, Female Socket; Contact Termination: Solder; Impedance: 50Ohm; Number of Ports: 1; Body Material: Zinc Alloy; Body Finish: Nickel; Center Contact  Plating: Gold; Dielectric Material: Polypropylene (PP); Center Contact Material: Phosphor Bronze; Mating Cycles: 500; mfg P\N: 0731000131; Connector Style: BNC; Shield Termination: Solder; Mounting Type: Panel Mount, Through Hole, Right Angle; Mounting Feature: Bulkhead - Front Side Nut; Fastening Type: Bayonet Lock; Features: Board Lock, Isolated; Housing Color: Silver, White; Supplier 1: Digi-Key; Supplier Part Number 1: WM5277-ND
footprint Connector,BNC, PCB,Female,Right Angle
pins: 1, 2 gnd

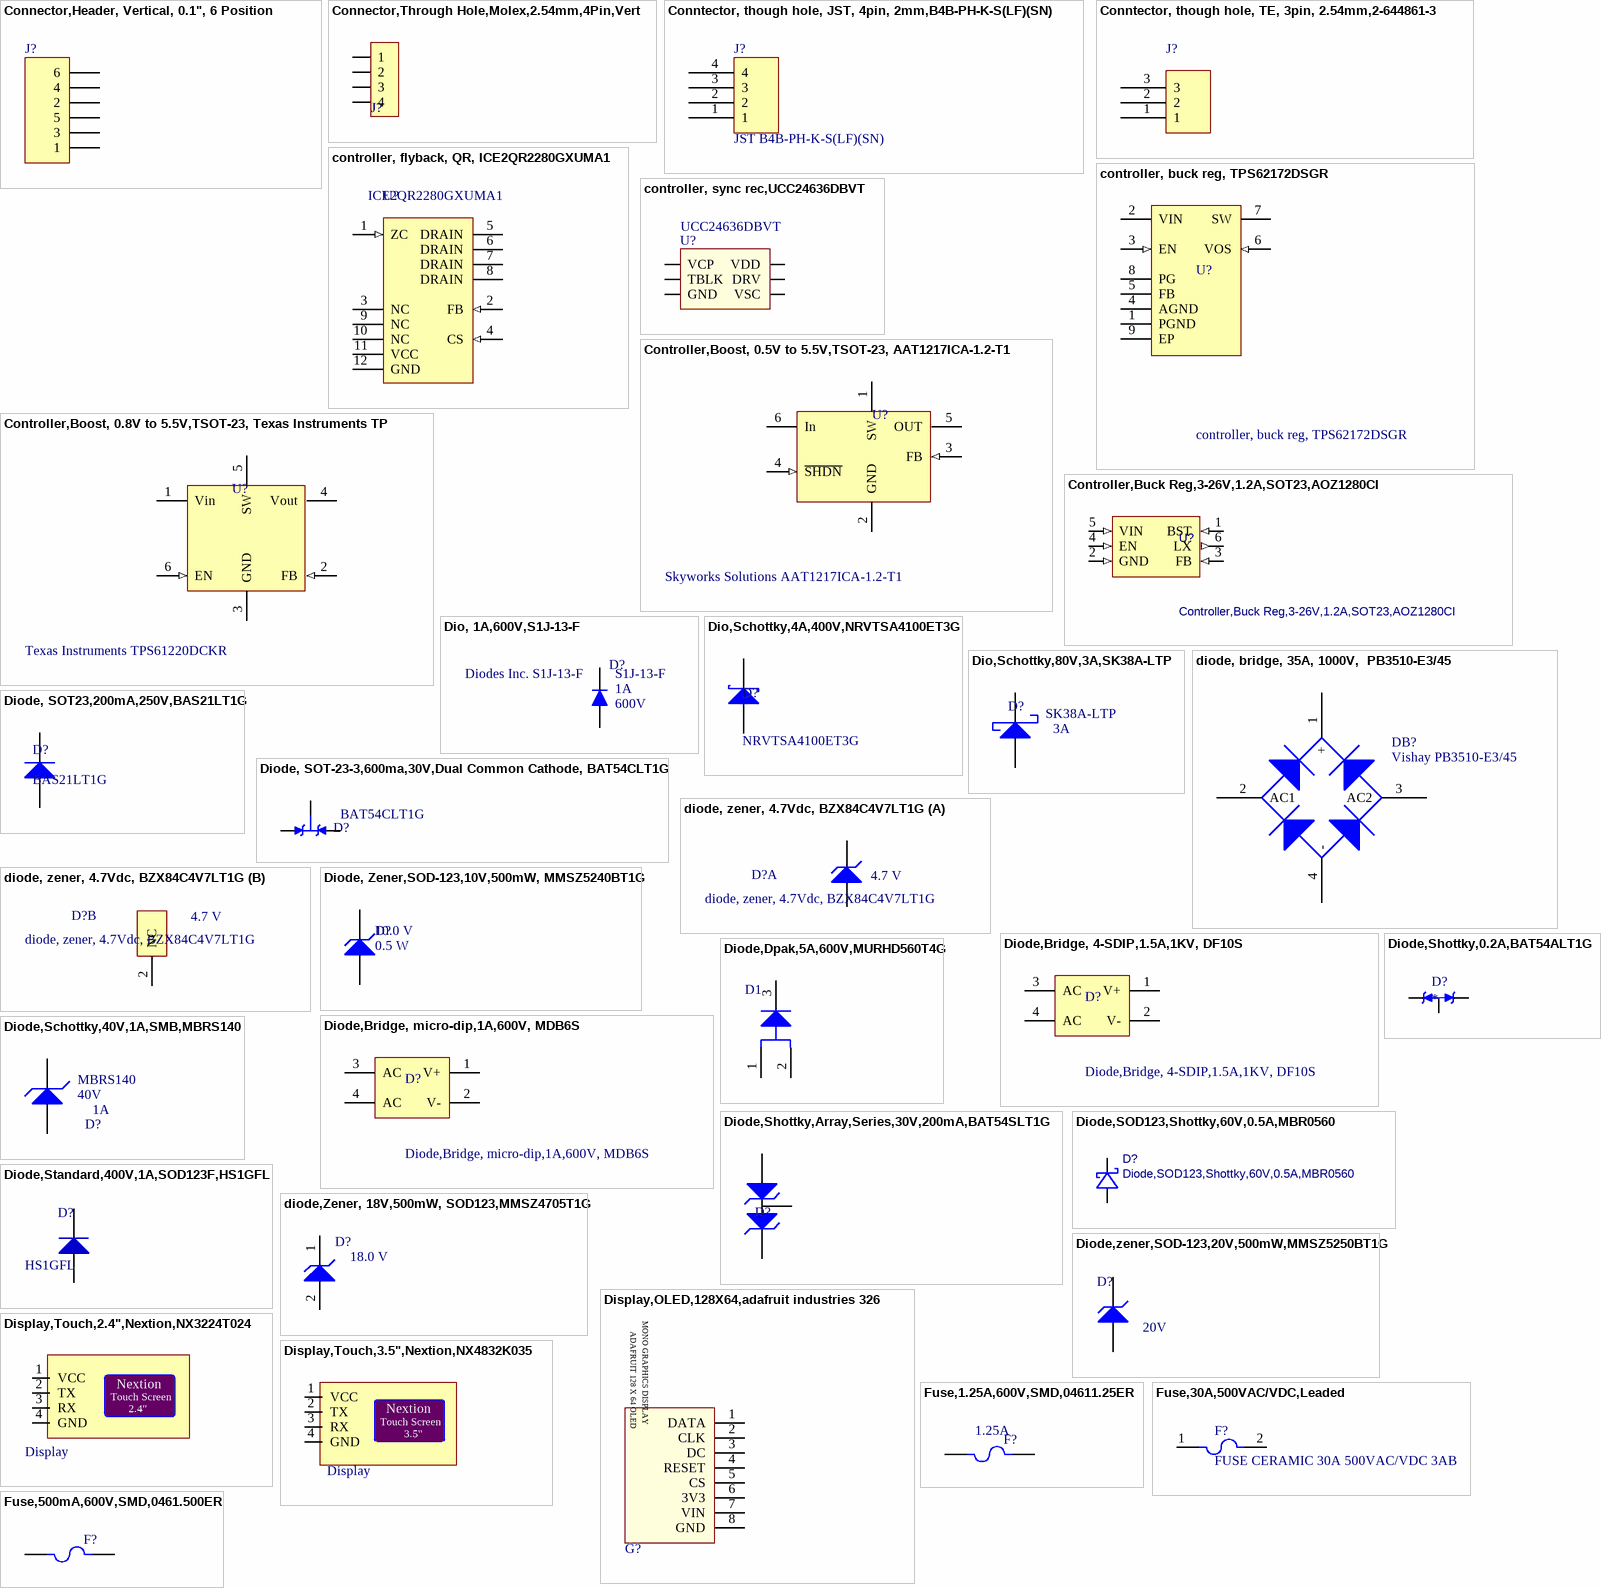
[diagram p2: symbols Connector,Header, Vertical, 0.1", 6 Position to Fuse,500mA,600V,SMD,0461.500ER]

## Connector,Header, Vertical, 0.1", 6 Position
designator J?, comment Connector Header Through Hole 12 position 0.100" (2.54mm)  (value not drawn)
2.54mm (0.1") Pitch SIL Vertical PC Tail Pin Header, 6.1mm mating pin height, gold (hi-temp mould), 6 contacts; Manufacturer Part Number: M20-9990645; Number of Contacts: 6; Gender: Male; Number of Mating Cycles: 300; Insulation Resistance: 10.0 GΩ; Voltage Rating (AC): 750 V; Contact Resistance: 15.0 mΩ; Current Rating: 3.00 A; Octopart URL: https://octopart.com/m20-9990645-harwin-2678547; REACH SVHC Compliance: No SVHC; Insulation Material: Polyester; Contact Material: Phosphor Bronze; RoHS: Compliant; Mounting Style: Through Hole, Vertical; Pin Pitch: 2.54 mm
footprint Connector, Header,0.1", 6 pin (Connector Header Through Hole, 6 pin)
footprint Connector, Header,0.1", 6 pin - Long pins (Connector Header Through Hole, 6 pin)
pins: 1, 2, 3, 4, 5, 6

## Connector,Through Hole,Molex,2.54mm,4Pin,Vert
designator J?, comment 0022112042  (value not drawn)
Connector Header Through Hole 4 position 0.100" (2.54mm); Manufacturer: Molex; Number of Positions: 4; Number of Positions Loaded: All; Style: Board to Board or Cable; Shrouding: Shrouded - 1 Wall; Contact Length - Mating: 0.295" (7.49mm); Contact Length - Post: 0.140" (3.56mm); Overall Contact Length: 0.560" (14.22mm); Material Flammability Rating: UL94 V-0; p/n: 0022112042; Connector Type: Header; Contact Type: Male Pin; Pitch - Mating: 0.100" (2.54mm); Number of Rows: 1; Mounting Type: Through Hole; Termination: Solder; Fastening Type: Friction Lock; Insulation Height: 0.322" (8.18mm); Contact Shape: Square; Contact Finish - Mating: Gold; Contact Finish Thickness - Mating: 20.0µin (0.51µm); Contact Finish - Post: Tin; Contact Material: Brass; Insulation Material: Polyamide (PA), Nylon; Insulation Color: White; Contact Finish Thickness - Post: 100.0µin (2.54µm); Applications: Automotive, General Purpose, Medical, Telecommunications; Supplier 1: Digi-Key; Supplier Part Number 1: WM2702-ND; Supplier 2: LCSC; Supplier Part Number 2: C114123
footprint conn, molex, 0.1", 4 pin (4 pin molex connect with 0.1" spacing)
pins: 1, 2, 3, 4

## Conntector, though hole, JST, 4pin, 2mm,B4B-PH-K-S(LF)(SN)
designator J?, comment JST B4B-PH-K-S(LF)(SN)
PH Series 4 Position 2 mm Pitch Through Hole Crimp Top Entry Shrouded Header; Voltage Rating (AC): 100 V; Insulation Resistance: 1.00 MΩ; Number of Contacts: 4; Contact Resistance: 10.0 mΩ; REACH SVHC Compliance: No SVHC; Mounting Style: Through Hole, Vertical; Manufacturer Part Number: B4B-PH-K-S(LF)(SN); Size-Width: 4.50 mm; Number of Positions: 4; Size-Height: 6.00 mm; Size-Length: 9.90 mm; Supplier 1: Farnell; Supplier 2: Newark; Supplier 3: Digi-Key; Supplier 4: Digi-Key; Supplier Part Number 4: 455-1706-ND
footprint Conn, JST, 4 pin, 2mm spacing (jst connector, 4 pin, 2mm spacing)
footprint Conn, JST, 4 pin, 2mm spacing Right Angle (jst connector, 4 pin, 2mm spacing Right Anlge)
pins: 1, 2, 3, 4

## Conntector, though hole, TE, 3pin, 2.54mm,2-644861-3
designator J?, comment 2-644861-3  (value not drawn)
Connector Header Through Hole 3 position 0.100" (2.54mm); Insulation Resistance: 1.00 MΩ; Number of Contacts: 3; Number of Positions Loaded: All; Style: Board to Cable/Wire; Shrouding: Shrouded - 4 Wall; Contact Length - Mating: 0.200" (5.08mm); Contact Length - Post: 0.140" (3.56mm); Overall Contact Length: 0.440" (11.18mm); Material Flammability Rating: UL94 V-0; Current Rating (Amps): Varies by Wire Gauge; Voltage Rating: 250VAC; Number of Positions: 3; Connector Type: Header; Contact Type: Male Pin; Pitch - Mating: 0.100" (2.54mm); Number of Rows: 1; Mounting Type: Through Hole; Termination: Solder; Fastening Type: Friction Lock; Insulation Height: 0.410" (10.41mm); Contact Shape: Square; Contact Finish - Mating: Tin; Contact Finish - Post: Tin; Contact Material: Copper Alloy; Insulation Material: Polyester; Operating Temperature: -55°C ~ 105°C; Applications: General Purpose; Supplier 1: Digi-Key; Supplier Part Number 1: A30932-ND
footprint Connector,TE,3-Pin,Male,Vert,2-644861-3 (Connector Header Through Hole 3 position 0.100" (2.54mm))
pins: 1, 2, 3

## controller, buck reg, TPS62172DSGR
designator U?
Buck Step Down Regulator with 3 to 17 V Input and 3.3 V Output, -40 to 85 degC, 8-Pin WSON (DSG), Green (RoHS & no Sb/Br); Quiescent Current: 1.7e-05 A; Number of Regulated Outputs: 1; Lead-Free Status: Lead Free; RoHS: Compliant; Lifecycle Status: Active; Topology: Buck; Manufacturer Part Number: TPS62172DSGR; Supplier 1: Digi-Key; Supplier 2: Digi-Key; Supplier 3: Digi-Key; Supplier 4: Digi-Key; Supplier 5: Digi-Key; Supplier 6: Digi-Key; Supplier 7: Newark; Supplier 8: Farnell; Supplier 9: Farnell; Supplier 10: Farnell
footprint SON, 8-Leads (SON, 8-Leads, Body 2x2mm, Pitch 0.5mm, Thermal Pad 1.6x0.9mm, TI Recommended)
pins: 1 PGND (power) "Power ground", 2 VIN (power) "Supply voltage", 3 EN (in) "Enable input (High = enabled, Low = disabled)", 4 AGND (power) "Analog Ground", 5 FB "Voltage feedback of adjustable version. Connect resistive voltage divider to this pin. It is recommended to connect FB to AGND on fixed output voltage versions for improved thermal performance.", 6 VOS (in) "Output voltage sense pin and connection for the control loop circuitry.", 7 SW (power) "Switch node, which is connected to the internal MOSFET switches. Connect inductor between SW and output capacitor.", 8 PG (hiz) "Output power good (High = VOUT ready, Low = VOUT below nominal regulation) ; open drain (requires pull-up resistor; goes high impedance, when device is switched off)", 9 EP (power) "Must be connected to AGND. Must be soldered to achieve appropriate power dissipation and mechanical reliability."

## controller, flyback, QR, ICE2QR2280GXUMA1
designator U?, comment mfg P/N: ICE2QR2280GXUMA1  (hidden comment: Infineon ICE2QR2280GXUMA1)
Off Line SMPS Quasi-Resonant PWM Controller 12-Pin DSO T/R; Detailed Description: Converter Offline Flyback Topology 52kHz PG-DSO-12; Output Isolation: Isolated; Internal Switch(s): Yes; Voltage - Breakdown: 800V; Topology: Flyback; Voltage - Start Up: 18V; Voltage - Supply (Vcc/Vdd): 10.5 V ~ 27 V; Duty Cycle: 50%; Frequency - Switching: 52kHz; Power (Watts): 53W; Fault Protection: Current Limiting, Over Load, Over Temperature, Over Voltage; Packaging: Tape & Reel (TR); Mounting Style: Surface Mount; Operating Temperature: -40°C ~ 150°C (TJ); Package / Case: 12-BSOP (0.295", 7.50mm Width); Supplier Device: Package PG-DSO-12; Mounting Type: Surface Mount
footprint SOP, 16-Leads (SOP, 16-Leads, Body 9.9x3.9mm, Pitch 1.27mm, IPC Medium Density)
pins: 1 ZC (in) "Zero crossing", 2 FB (in) "Feedback", 3 NC "Not Connected", 4 CS (in) "Current Sense", 5 DRAIN (power) "650V1) CoolMOS(TM) Drain", 6 DRAIN (power) "650V1) CoolMOS(TM) Drain", 7 DRAIN (power) "650V1) CoolMOS(TM) Drain", 8 DRAIN (power) "650V1) CoolMOS(TM) Drain", 9 NC "Not Connected", 10 NC "Not Connected", 11 VCC (power) "Controller Supply Voltage", 12 GND (power) "Controller Ground"

## controller, sync rec,UCC24636DBVT
designator U?, comment Manufacturer Part Number: UCC24636DBVT  (hidden comment: Texas Instruments UCC24636DBVT)
Synchronous Rectifier Controller With Ultra-Low Standby Current 6-SOT-23 -40 to 125; Supply Voltage (DC): 3.75 V (min); Lead-Free Status: Lead Free; Packaging: Cut Tape (CT); Lifecycle Status: Active; RoHS: Compliant; Supplier 1: Newark; Supplier 2: Farnell; Supplier 3: Digi-Key; Supplier 4: Digi-Key; Supplier 5: Digi-Key; Supplier 6: Farnell
footprint SOT23-6 (SOT23, 6-Leads, Body 3.0x1.7mm, Pitch 0.95mm, Lead Span 2.9mm, IPC High Density)
pins: 1 VCP, 2 VSC, 3 TBLK, 4 DRV, 5 GND, 6 VDD

## Controller,Boost, 0.5V to 5.5V,TSOT-23, AAT1217ICA-1.2-T1
designator U?, comment Skyworks Solutions AAT1217ICA-1.2-T1
Conv DC-DC 0.65V to 5.5V Step Up Single-Out 0.5V to 5.5V 0.6A 6-Pin TSOT-23 T/R; Output Configuration: Positive; Topology: Boost; Output Type: Adjustable; Number of Outputs: 1; Voltage - Output (Min/Fixed): 2.5V; Current - Output: 750mA (Switch); Frequency - Switching: 1.2MHz; Synchronous Rectifier: Yes; RoHS: Compliant; Packaging: Reel; mfg P/N: AAT1217ICA-1.2-T1; OctopartID: 1d56d599d423c291; Octopart URL: http://octopart.com/aat1217ica-1.2-t1-skyworks+solutions-29748243; Voltage - Input (Min): 0.5V; Voltage - Input (Max): 5.5V; Voltage - Output (Max): 5.5V; Package / Case: SOT-23-6 Thin, TSOT-23-6
footprint SOT23-6 (SOT23, 6-Leads, Body 3.0x1.7mm, Pitch 0.95mm, Lead Span 2.9mm, IPC High Density)
pins: 1 SW (power) "Input to the device.", 2 GND (power) "Regulator ground", 3 FB (in) "This terminal is the feedback input voltage for the adjustable device", 4 ~{SHDN} (in) "Driving the enable pin (EN) high turns on the regulator. Driving this pin low puts the regulator into shutdown mode. EN can be connected to IN if not used.", 5 OUT (power) "Output of the regulator.", 6 In "Connecting an external capacitor to this pin bypasses noise generated by the internal bandgap. This improves power-supply rejection and reduces output noise."

## Controller,Boost, 0.8V to 5.5V,TSOT-23, Texas Instruments TPS61220DCKR
designator U?, comment Texas Instruments TPS61220DCKR
Boost Switching Regulator IC Positive Adjustable 1.8V 1 Output 200mA (Switch) 6-TSSOP, SC-88, SOT-363; Number of Outputs: 1; Voltage - Input (Min): 0.7V; Voltage - Input (Max): 5.5V; Voltage - Output (Max): 6V; Frequency - Switching: Up to 2MHz; Synchronous Rectifier: Yes; RoHS: Compliant; mfg P/N: TPS61220DCKR; Output Configuration: Positive; Topology: Boost; Output Type: Adjustable; Voltage - Output (Min/Fixed): 1.8V; Current - Output: 200mA (Switch); Package / Case: SOT-23-6 Thin, TSOT-23-6
footprint SC-70-6
pins: 1 Vin (power) "Input to the device.", 2 FB (in) "Regulator ground", 3 GND (power) "This terminal is the feedback input voltage for the adjustable device", 4 Vout (power) "Driving the enable pin (EN) high turns on the regulator. Driving this pin low puts the regulator into shutdown mode. EN can be connected to IN if not used.", 5 SW (power) "Output of the regulator.", 6 EN (in) "Connecting an external capacitor to this pin bypasses noise generated by the internal bandgap. This improves power-supply rejection and reduces output noise."

## Controller,Buck Reg,3-26V,1.2A,SOT23,AOZ1280CI
designator U?
IC,VR,Buck In 3V-26V,Vo Adj 1.2A,AOZ1280CI,SOT-23-6; Manufacturer: Alpha & Omega Semiconductor Inc; Details: 1.2A,; Value: 3 V ~ 26 V; P/N: 3460026; Created Date: 2014-04-22; Fast Supplier: Digi-Key; Fast Supplier P/N: 785-1277-1-ND; Package: SC-74, SOT-457, SOT-23-6; Temperature Range: -40°C ~ 85°C; Type: 0.8 V ~ 26 V, Adjustable; Manufacturer P/N: AOZ1280CI
footprint SOT23-6 (SOT23, 6-Leads, Body 3.0x1.7mm, Pitch 0.95mm, Lead Span 2.9mm, IPC High Density)
pins: 1 BST (in), 2 GND (in), 3 FB (in), 4 EN (in), 5 VIN (in), 6 LX (out)

## Dio, 1A,600V,S1J-13-F
designator D?, comment Diodes Inc. S1J-13-F  Manufacturer Part Number: S1J-13-F  Voltage - DC Reverse (Vr) (Max): 600V  Current: 1A
S1J Series 600 V 1 A Surface Mount Glass Passivated Rectifier - DO-214AC; Vforward: 1.1@1A; Reverse recovery time: 3us; Capacitance @ Vr, F: 10pF @ 4V, 1MHz; Speed: Standard Recovery >500ns, > 200mA (Io); Diode Type: Standard; Package / Case: DO-214AC, SMA; Operating Temperature - Junction: -65°C ~ 150°C
footprint DO-214AC, SMA (Molded, 2-Leads, Body 4.32x2.6mm)
pins: 1 A, 2 K